# EAGLE library part SN74LV123A-Q1 (library 0SBLib)
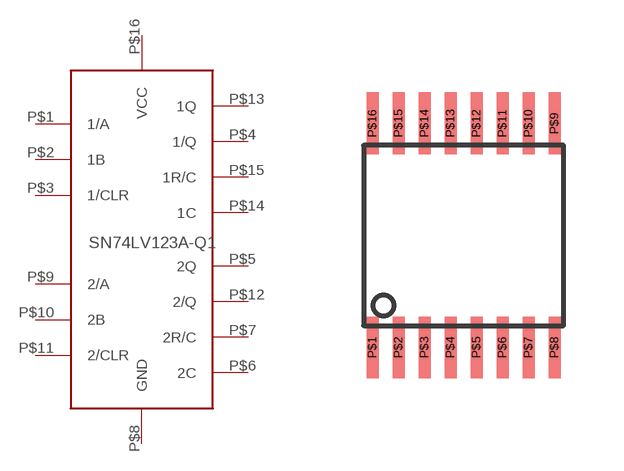
[diagram p11: symbol with the pads of TSSOP-16W; footprint TSSOP-16W]

Designator prefix -

## SN74LV123A-Q1  [TSSOP-16W]
P$1  1/A
P$2  1B
P$3  1/CLR
P$4  1/Q
P$5  2Q
P$6  2C
P$7  2R/C
P$8  GND
P$9  2/A
P$10  2B
P$11  2/CLR
P$12  2/Q
P$13  1Q
P$14  1C
P$15  1R/C
P$16  VCC

## Footprint TSSOP-16W (pad centres in mm)
smd 0.3 x 1.55: P$1 -2.275,-2.8; P$2 -1.625,-2.8; P$3 -0.975,-2.8; P$4 -0.325,-2.8; P$5 0.325,-2.8; P$6 0.975,-2.8; P$7 1.625,-2.8; P$8 2.275,-2.8; P$9 2.275,2.8; P$10 1.625,2.8; P$11 0.975,2.8; P$12 0.325,2.8; P$13 -0.325,2.8; P$14 -0.975,2.8; P$15 -1.625,2.8; P$16 -2.275,2.8